# Altium footprint library Oscillator_Fox_767-12-69_HC5.PcbLib: 1 footprints
Each footprint in its own frame and in the unit in brackets; x right, y up, seen from the top. Pads: shape width x height; smd on the part's side, far side on the other; paste and mask are expansions set on the pad; w line width, h text height; cw(c..) or ccw(c..) is an arc to the next point about the centre after c.
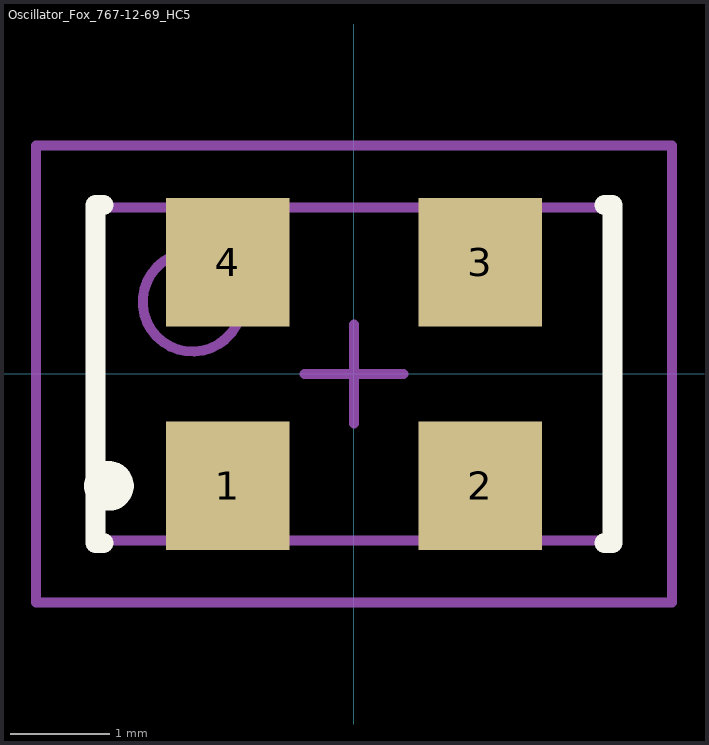
[diagram p0: the footprint, top view; thin cyan lines are the x and y axes]

## Oscillator_Fox_767-12-69_HC5 [mm]
height 1.4
pads (4):
  rect 1.24x1.29 smd: 1(-1.27,-1.125) 2(1.27,-1.125) 3(1.27,1.125) 4(-1.27,1.125)
Top Overlay:
  circle w0.25: c-2.465,-1.125 r0.125
  lines w0.2: -2.6,-0.48 -2.6,1.7 -2.52,1.7 ; -2.6,0.48 -2.6,-1.7 -2.52,-1.7 ; 2.52,-1.7 2.6,-1.7 2.6,0.48 ; 2.52,1.7 2.6,1.7 2.6,-0.48
Mechanical 13:
  circle w0.1: c-1.625,0.725 r0.5
  lines w0.1: -2.575,-1.675 2.575,-1.675 2.575,1.675 -2.575,1.675 -2.575,-1.675
Mechanical 15:
  lines w0.1: -0.5,0 0.5,0 ; 0,-0.5 0,0.5 ; -3.2,-2.3 3.2,-2.3 3.2,2.3 -3.2,2.3 -3.2,-2.3
3D body: height 1.4, standoff 0, extent -2.575,-1.675 2.575,1.675